# Altium schematic symbol library OPA172.SchLib: 2 symbols
Pins are listed as number, name and electrical type; pins without a type are passive.

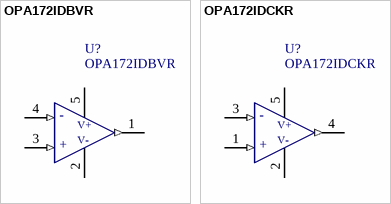
[diagram p0: symbols OPA172IDBVR to OPA172IDCKR]

## OPA172IDBVR
designator U?
OPAx172 36-V, Single-Supply, 10-MHz, Rail-to-Rail Output Operational Amplifiers; value: OPA172IDBVR
footprint SOT-23-5 (SOT23, 5-Leads, Body 2.9x1.6mm, Pitch 0.95mm, Lead Span 2.8mm, IPC Medium Density)
pins: 1 (out), 2 V- (power), 3 + (in), 4 - (in), 5 V+ (power)

## OPA172IDCKR
designator U?
OPAx172 36-V, Single-Supply, 10-MHz, Rail-to-Rail Output Operational Amplifiers; value: OPA172IDCKR
footprint SC70-5 (SC5 Package  5-Lead Plastic SC70)
pins: 1 + (in), 2 V- (power), 3 - (in), 4 (out), 5 V+ (power)